# EAGLE library part WE-D-SUB_THT_TH_214611003 (library WE-D-SUB)
WE-D-SUB Filter Solder Pin Straight Characteristics Standard type filtered with 1000 pF High attenuation: max. ≥ 40 dB @ 180 MHz Choice of UNC 4/40 or through hole Rated voltage: 100 VDC Rated current @ 20 ºC: 5 A Withstand voltage: 250 VRMS Insulation resistance: min. 1000 MΩ Operating temperature: –55 ºC to +125 ºC Applications Filtering of interfaces External connection to -printer -sensor -display Device and Package Name Note: TH means Size Through Hole <https://katalog.we-online.de/media/images/v2/o14707v209%20Family_D-SUB-Filter_mit_geradem_Loetstift.jpg> Details see: https://katalog.we-online.de/en/pbs/D-SUB-FILTER-STRAIGHT Updated by Ella Wu 2019-09-10 2019(C) Wurth Elektronik
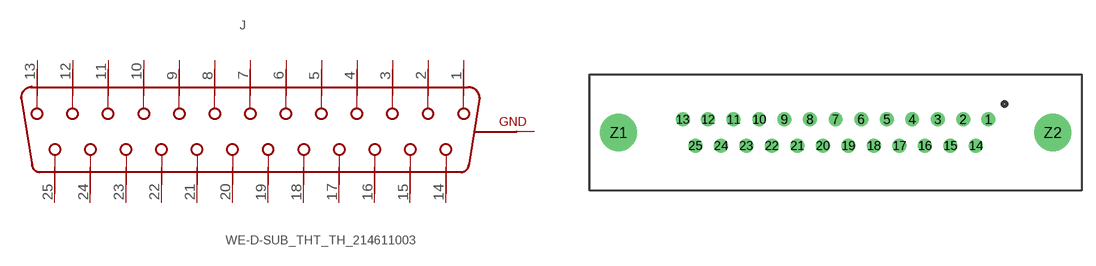
[diagram p10: symbol with the pads of WE-D-SUB_THT_TH_214611003; footprint WE-D-SUB_THT_TH_214611003]

Designator prefix J

## WE-D-SUB_THT_TH_214611003 (DATASHEET-URL: https://katalog.we-online.de/pbs/datasheet/214611003.pdf; MOUNT: THT; PART-NUMBER: 214611003; POLES: 25; TYPE: Female)  [WE-D-SUB_THT_TH_214611003]
1  13  pas
2  12  pas
3  11  pas
4  10  pas
5  9  pas
6  8  pas
7  7  pas
8  6  pas
9  5  pas
10  4  pas
11  3  pas
12  2  pas
13  1  pas
14  25  pas
15  24  pas
16  23  pas
17  22  pas
18  21  pas
19  20  pas
20  19  pas
21  18  pas
22  17  pas
23  16  pas
24  15  pas
25  14  pas
Z1  GND  pwr
Z2  GND  pwr

## Footprint WE-D-SUB_THT_TH_214611003 (pad centres in mm)
WE-D-SUB Filter Solder Pin Straight 25 Poles , Female TH means Size Through Hole
drill 1: 1 16.56,1.42; 2 13.82,1.42; 3 11.05,1.42; 4 8.28,1.42; 5 5.54,1.42; 6 2.77,1.42; 7 0,1.42; 8 -2.77,1.42; 9 -5.54,1.42; 10 -8.28,1.42; 11 -11.05,1.42; 12 -13.82,1.42; 13 -16.56,1.42; 14 15.19,-1.42; 15 12.42,-1.42; 16 9.68,-1.42; 17 6.91,-1.42; 18 4.14,-1.42; 19 1.38,-1.42; 20 -1.38,-1.42; 21 -4.14,-1.42; 22 -6.91,-1.42; 23 -9.68,-1.42; 24 -12.42,-1.42; 25 -15.19,-1.42
drill 3: Z1 -23.5,0; Z2 23.5,0